# EAGLE library part FAULHABER (library PiB_motors)
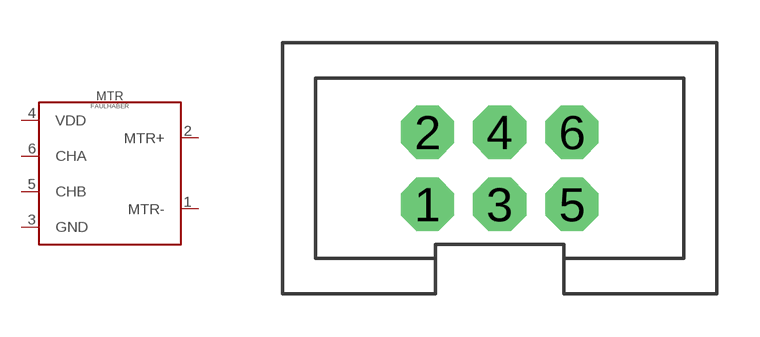
[diagram p0: symbol with the pads of 02X03-SHROUDED_FAULHABER1717T; footprint 02X03-SHROUDED_FAULHABER1717T]

Designator prefix MTR

## FAULHABER_SHROUDED_ (DATASHEET_CONNECTOR: http://multimedia.3m.com/mws/media/22504O/3mtm-100-in-loprof-hdr-100x-100strt-ra-4-wall-ts0818.pdf; DATASHEET_ENC: https://www.micromo.com/media/pdfs/IE2-1024_DFF.pdf; DATASHEET_MTR: https://www.micromo.com/media/pdfs/1717_SR_DFF.pdf; DIST: Micromo; DISTLINK: https://www.micromo.com/1717t006srie2-1024.html; DISTLINK_CONNECTOR: https://www.digikey.com/products/en?keywords=3M15451-ND; DISTPN: 1717T006SRIE2-1024; DISTPN_CONNECTOR: 3M15451-ND; DIST_CONNECTOR: Digikey; MFR: FAULHABER; MFR_CONNECTOR: 3M; MPN: 1717T006SRIE2-1024; MPN_CONNECTOR: 30306-6002HB; VALUE: 1717T006SRIE2-1024)  [02X03-SHROUDED_FAULHABER1717T]
1  MTR-
2  MTR+
3  GND
4  VDD
5  CHB
6  CHA

## Footprint 02X03-SHROUDED_FAULHABER1717T (pad centres in mm)
drill 1.1 pad 1.88 octagon: 1 -2.54,-1.27; 2 -2.54,1.27; 3 0,-1.27; 4 0,1.27; 5 2.54,-1.27; 6 2.54,1.27